# EAGLE library part DS1307 (library Infinity Mirror)
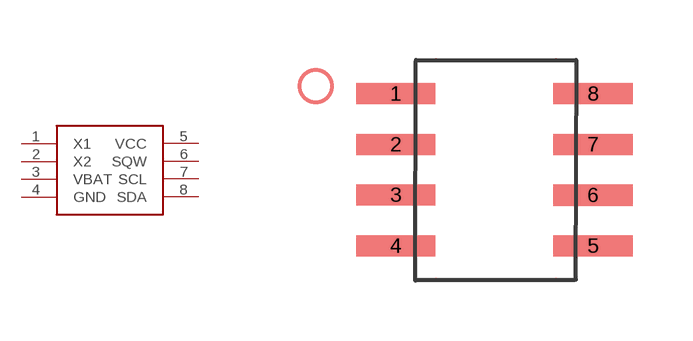
[diagram p0: symbol with the pads of SOIC_8; footprint SOIC_8]

Designator prefix -

## DS1307  [SOIC_8]
1  X1
2  X2
3  VBAT
4  GND
5  VCC
6  SQW
7  SCL
8  SDA

## Footprint SOIC_8 (pad centres in mm)
DS3231
smd 1.98 x 0.53: 1 0,3.81; 2 0,2.54; 3 0,1.276; 4 0,0; 5 4.93,0; 6 4.93,1.27; 7 4.93,2.54; 8 4.93,3.81